# Altium integrated library Microchip DSC 16-Bit dsPIC33F.IntLib: 326 symbols (part 1 of 15)
Pins are listed as number, name and electrical type; pins without a type are passive.

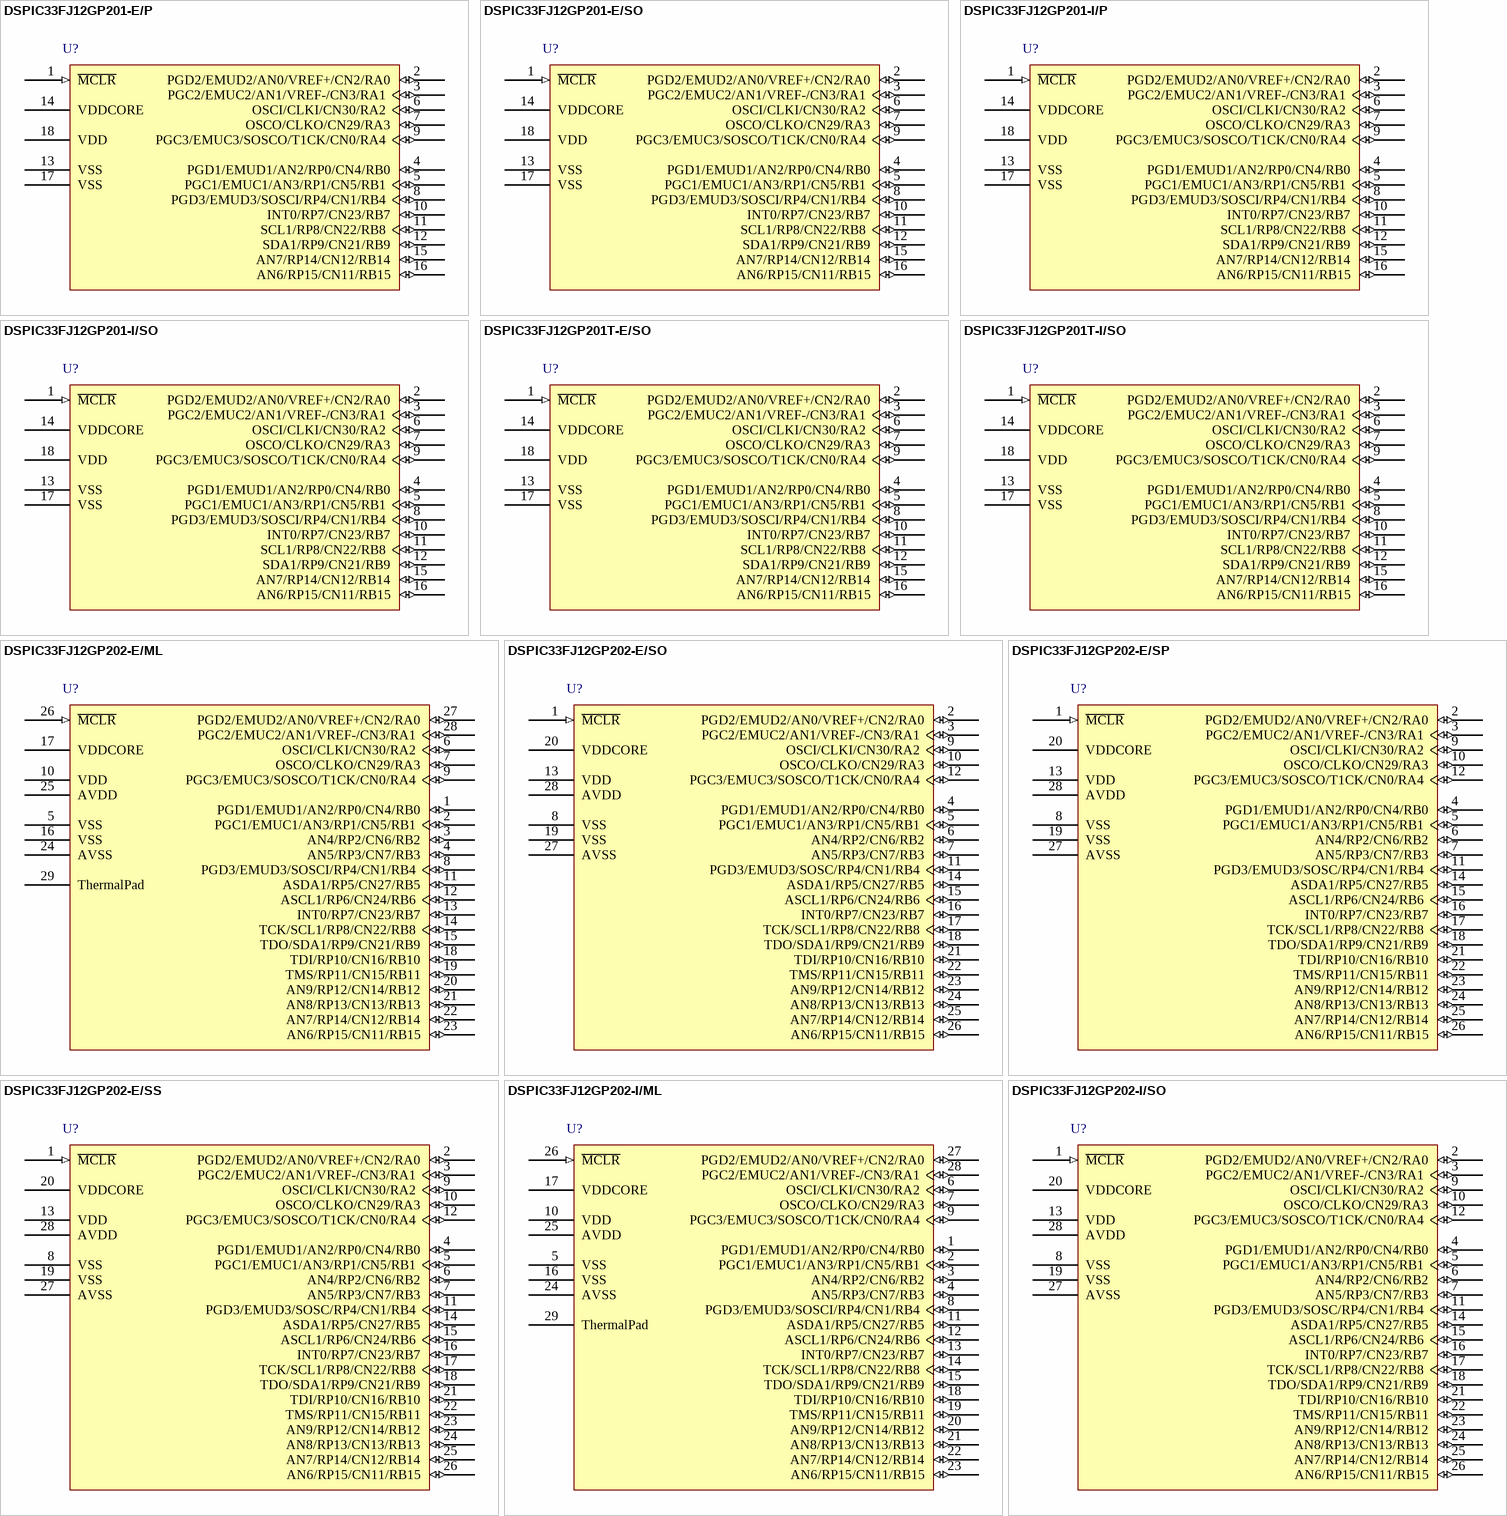
[diagram p0: symbols DSPIC33FJ12GP201-E/P to DSPIC33FJ12GP202-I/SO]

## DSPIC33FJ12GP201-E/P
designator U?
High-Performance 16-bit Digital Signal Controller, 12 KB Flash, 1 KB RAM, 18-Pin PDIP, Extended High Temperature; Published: 29-Jan-2009; DatasheetVersion: revC, Jun-2008; PackageVersion: revAW, Oct-2008; PackageReference: PDIP300-P18; Publisher: Altium Limited; PackageDescription: 18-Lead Plastic Dual In-Line (P) - 300 mil Body [PDIP]; Code_JEDEC: MS-001; ComponentLink1Description: Manufacturer Link; ComponentLink1URL: http://www.microchip.com; ComponentLink2Description: Datasheet; ComponentLink2URL: http://ww1.microchip.com/downloads/en/DeviceDoc/70264C.pdf; ComponentLink3Description: Packaging Specification; ComponentLink3URL: http://ww1.microchip.com/downloads/en/PackagingSpec/00049AW.pdf
footprint PDIP300-P18 (DIP, 18-Leads, Row Spacing 7.62mm, Pitch 2.54mm, Body 22.9x6.6mm)
pins: 1 ~{MCLR} (in), 2 PGD2/EMUD2/AN0/VREF+/CN2/RA0 (io), 3 PGC2/EMUC2/AN1/VREF-/CN3/RA1 (io), 4 PGD1/EMUD1/AN2/RP0/CN4/RB0 (io), 5 PGC1/EMUC1/AN3/RP1/CN5/RB1 (io), 6 OSCI/CLKI/CN30/RA2 (io), 7 OSCO/CLKO/CN29/RA3 (io), 8 PGD3/EMUD3/SOSCI/RP4/CN1/RB4 (io), 9 PGC3/EMUC3/SOSCO/T1CK/CN0/RA4 (io), 10 INT0/RP7/CN23/RB7 (io), 11 SCL1/RP8/CN22/RB8 (io), 12 SDA1/RP9/CN21/RB9 (io), 13 VSS (power), 14 VDDCORE (power), 15 AN7/RP14/CN12/RB14 (io), 16 AN6/RP15/CN11/RB15 (io), 17 VSS (power), 18 VDD (power)

## DSPIC33FJ12GP201-E/SO
designator U?
High-Performance 16-bit Digital Signal Controller, 12 KB Flash, 1 KB RAM, 18-Pin SOIC, Extended High Temperature; Published: 29-Jan-2009; DatasheetVersion: revC, Jun-2008; PackageVersion: revAW, Oct-2008; PackageReference: SOIC-SO18; Publisher: Altium Limited; PackageDescription: 18-Lead Plastic Small Outline (SO) - Wide 7.50mm Body [SOIC]; Code_JEDEC: MS-013; ComponentLink1Description: Manufacturer Link; ComponentLink1URL: http://www.microchip.com; ComponentLink2Description: Datasheet; ComponentLink2URL: http://ww1.microchip.com/downloads/en/DeviceDoc/70264C.pdf; ComponentLink3Description: Packaging Specification; ComponentLink3URL: http://ww1.microchip.com/downloads/en/PackagingSpec/00049AW.pdf
footprint SOIC-SO18_N (SOIC, 18-Leads, Body 11.5x7.5mm, Pitch 1.27mm, IPC Medium Density)
footprint SOIC-SO18_L (SOIC, 18-Leads, Body 11.5x7.5mm, Pitch 1.27mm, IPC High Density)
footprint SOIC-SO18_M (SOIC, 18-Leads, Body 11.5x7.5mm, Pitch 1.27mm, IPC Low Density)
pins: 1 ~{MCLR} (in), 2 PGD2/EMUD2/AN0/VREF+/CN2/RA0 (io), 3 PGC2/EMUC2/AN1/VREF-/CN3/RA1 (io), 4 PGD1/EMUD1/AN2/RP0/CN4/RB0 (io), 5 PGC1/EMUC1/AN3/RP1/CN5/RB1 (io), 6 OSCI/CLKI/CN30/RA2 (io), 7 OSCO/CLKO/CN29/RA3 (io), 8 PGD3/EMUD3/SOSCI/RP4/CN1/RB4 (io), 9 PGC3/EMUC3/SOSCO/T1CK/CN0/RA4 (io), 10 INT0/RP7/CN23/RB7 (io), 11 SCL1/RP8/CN22/RB8 (io), 12 SDA1/RP9/CN21/RB9 (io), 13 VSS (power), 14 VDDCORE (power), 15 AN7/RP14/CN12/RB14 (io), 16 AN6/RP15/CN11/RB15 (io), 17 VSS (power), 18 VDD (power)

## DSPIC33FJ12GP201-I/P
designator U?
High-Performance 16-bit Digital Signal Controller, 12 KB Flash, 1 KB RAM, 18-Pin PDIP, Industrial Temperature; Published: 29-Jan-2009; DatasheetVersion: revC, Jun-2008; PackageVersion: revAW, Oct-2008; PackageReference: PDIP300-P18; Publisher: Altium Limited; PackageDescription: 18-Lead Plastic Dual In-Line (P) - 300 mil Body [PDIP]; Code_JEDEC: MS-001; ComponentLink1Description: Manufacturer Link; ComponentLink1URL: http://www.microchip.com; ComponentLink2Description: Datasheet; ComponentLink2URL: http://ww1.microchip.com/downloads/en/DeviceDoc/70264C.pdf; ComponentLink3Description: Packaging Specification; ComponentLink3URL: http://ww1.microchip.com/downloads/en/PackagingSpec/00049AW.pdf
footprint PDIP300-P18 (DIP, 18-Leads, Row Spacing 7.62mm, Pitch 2.54mm, Body 22.9x6.6mm)
pins: 1 ~{MCLR} (in), 2 PGD2/EMUD2/AN0/VREF+/CN2/RA0 (io), 3 PGC2/EMUC2/AN1/VREF-/CN3/RA1 (io), 4 PGD1/EMUD1/AN2/RP0/CN4/RB0 (io), 5 PGC1/EMUC1/AN3/RP1/CN5/RB1 (io), 6 OSCI/CLKI/CN30/RA2 (io), 7 OSCO/CLKO/CN29/RA3 (io), 8 PGD3/EMUD3/SOSCI/RP4/CN1/RB4 (io), 9 PGC3/EMUC3/SOSCO/T1CK/CN0/RA4 (io), 10 INT0/RP7/CN23/RB7 (io), 11 SCL1/RP8/CN22/RB8 (io), 12 SDA1/RP9/CN21/RB9 (io), 13 VSS (power), 14 VDDCORE (power), 15 AN7/RP14/CN12/RB14 (io), 16 AN6/RP15/CN11/RB15 (io), 17 VSS (power), 18 VDD (power)

## DSPIC33FJ12GP201-I/SO
designator U?
High-Performance 16-bit Digital Signal Controller, 12 KB Flash, 1 KB RAM, 18-Pin SOIC, Industrial Temperature; Published: 29-Jan-2009; DatasheetVersion: revC, Jun-2008; PackageVersion: revAW, Oct-2008; PackageReference: SOIC-SO18; Publisher: Altium Limited; PackageDescription: 18-Lead Plastic Small Outline (SO) - Wide 7.50mm Body [SOIC]; Code_JEDEC: MS-013; ComponentLink1Description: Manufacturer Link; ComponentLink1URL: http://www.microchip.com; ComponentLink2Description: Datasheet; ComponentLink2URL: http://ww1.microchip.com/downloads/en/DeviceDoc/70264C.pdf; ComponentLink3Description: Packaging Specification; ComponentLink3URL: http://ww1.microchip.com/downloads/en/PackagingSpec/00049AW.pdf
footprint SOIC-SO18_N (SOIC, 18-Leads, Body 11.5x7.5mm, Pitch 1.27mm, IPC Medium Density)
footprint SOIC-SO18_L (SOIC, 18-Leads, Body 11.5x7.5mm, Pitch 1.27mm, IPC High Density)
footprint SOIC-SO18_M (SOIC, 18-Leads, Body 11.5x7.5mm, Pitch 1.27mm, IPC Low Density)
pins: 1 ~{MCLR} (in), 2 PGD2/EMUD2/AN0/VREF+/CN2/RA0 (io), 3 PGC2/EMUC2/AN1/VREF-/CN3/RA1 (io), 4 PGD1/EMUD1/AN2/RP0/CN4/RB0 (io), 5 PGC1/EMUC1/AN3/RP1/CN5/RB1 (io), 6 OSCI/CLKI/CN30/RA2 (io), 7 OSCO/CLKO/CN29/RA3 (io), 8 PGD3/EMUD3/SOSCI/RP4/CN1/RB4 (io), 9 PGC3/EMUC3/SOSCO/T1CK/CN0/RA4 (io), 10 INT0/RP7/CN23/RB7 (io), 11 SCL1/RP8/CN22/RB8 (io), 12 SDA1/RP9/CN21/RB9 (io), 13 VSS (power), 14 VDDCORE (power), 15 AN7/RP14/CN12/RB14 (io), 16 AN6/RP15/CN11/RB15 (io), 17 VSS (power), 18 VDD (power)

## DSPIC33FJ12GP201T-E/SO
designator U?
High-Performance 16-bit Digital Signal Controller, 12 KB Flash, 1 KB RAM, 18-Pin SOIC, Extended High Temperature, Tape and Reel; Published: 29-Jan-2009; DatasheetVersion: revC, Jun-2008; PackageVersion: revAW, Oct-2008; PackageReference: SOIC-SO18; Publisher: Altium Limited; PackageDescription: 18-Lead Plastic Small Outline (SO) - Wide 7.50mm Body [SOIC]; Code_JEDEC: MS-013; ComponentLink1Description: Manufacturer Link; ComponentLink1URL: http://www.microchip.com; ComponentLink2Description: Datasheet; ComponentLink2URL: http://ww1.microchip.com/downloads/en/DeviceDoc/70264C.pdf; ComponentLink3Description: Packaging Specification; ComponentLink3URL: http://ww1.microchip.com/downloads/en/PackagingSpec/00049AW.pdf
footprint SOIC-SO18_N (SOIC, 18-Leads, Body 11.5x7.5mm, Pitch 1.27mm, IPC Medium Density)
footprint SOIC-SO18_L (SOIC, 18-Leads, Body 11.5x7.5mm, Pitch 1.27mm, IPC High Density)
footprint SOIC-SO18_M (SOIC, 18-Leads, Body 11.5x7.5mm, Pitch 1.27mm, IPC Low Density)
pins: 1 ~{MCLR} (in), 2 PGD2/EMUD2/AN0/VREF+/CN2/RA0 (io), 3 PGC2/EMUC2/AN1/VREF-/CN3/RA1 (io), 4 PGD1/EMUD1/AN2/RP0/CN4/RB0 (io), 5 PGC1/EMUC1/AN3/RP1/CN5/RB1 (io), 6 OSCI/CLKI/CN30/RA2 (io), 7 OSCO/CLKO/CN29/RA3 (io), 8 PGD3/EMUD3/SOSCI/RP4/CN1/RB4 (io), 9 PGC3/EMUC3/SOSCO/T1CK/CN0/RA4 (io), 10 INT0/RP7/CN23/RB7 (io), 11 SCL1/RP8/CN22/RB8 (io), 12 SDA1/RP9/CN21/RB9 (io), 13 VSS (power), 14 VDDCORE (power), 15 AN7/RP14/CN12/RB14 (io), 16 AN6/RP15/CN11/RB15 (io), 17 VSS (power), 18 VDD (power)

## DSPIC33FJ12GP201T-I/SO
designator U?
High-Performance 16-bit Digital Signal Controller, 12 KB Flash, 1 KB RAM, 18-Pin SOIC, Industrial Temperature, Tape and Reel; Published: 29-Jan-2009; DatasheetVersion: revC, Jun-2008; PackageVersion: revAW, Oct-2008; PackageReference: SOIC-SO18; Publisher: Altium Limited; PackageDescription: 18-Lead Plastic Small Outline (SO) - Wide 7.50mm Body [SOIC]; Code_JEDEC: MS-013; ComponentLink1Description: Manufacturer Link; ComponentLink1URL: http://www.microchip.com; ComponentLink2Description: Datasheet; ComponentLink2URL: http://ww1.microchip.com/downloads/en/DeviceDoc/70264C.pdf; ComponentLink3Description: Packaging Specification; ComponentLink3URL: http://ww1.microchip.com/downloads/en/PackagingSpec/00049AW.pdf
footprint SOIC-SO18_N (SOIC, 18-Leads, Body 11.5x7.5mm, Pitch 1.27mm, IPC Medium Density)
footprint SOIC-SO18_L (SOIC, 18-Leads, Body 11.5x7.5mm, Pitch 1.27mm, IPC High Density)
footprint SOIC-SO18_M (SOIC, 18-Leads, Body 11.5x7.5mm, Pitch 1.27mm, IPC Low Density)
pins: 1 ~{MCLR} (in), 2 PGD2/EMUD2/AN0/VREF+/CN2/RA0 (io), 3 PGC2/EMUC2/AN1/VREF-/CN3/RA1 (io), 4 PGD1/EMUD1/AN2/RP0/CN4/RB0 (io), 5 PGC1/EMUC1/AN3/RP1/CN5/RB1 (io), 6 OSCI/CLKI/CN30/RA2 (io), 7 OSCO/CLKO/CN29/RA3 (io), 8 PGD3/EMUD3/SOSCI/RP4/CN1/RB4 (io), 9 PGC3/EMUC3/SOSCO/T1CK/CN0/RA4 (io), 10 INT0/RP7/CN23/RB7 (io), 11 SCL1/RP8/CN22/RB8 (io), 12 SDA1/RP9/CN21/RB9 (io), 13 VSS (power), 14 VDDCORE (power), 15 AN7/RP14/CN12/RB14 (io), 16 AN6/RP15/CN11/RB15 (io), 17 VSS (power), 18 VDD (power)

## DSPIC33FJ12GP202-E/ML
designator U?
High-Performance 16-bit Digital Signal Controller, 12 KB Flash, 1 KB RAM, 28-Pin QFN, Extended High Temperature; Published: 29-Jan-2009; DatasheetVersion: revC, Jun-2008; PackageVersion: revAW, Oct-2008; PackageReference: QFN-ML28; Publisher: Altium Limited; PackageDescription: 28-Lead Plastic Quad Flat, No Lead Package (ML) - 6x6 mm Body [QFN] with 0.55 mm Contact Length; Code_JEDEC: MO-220; Code_IPC: QFN65P600X600-28V; ComponentLink1Description: Manufacturer Link; ComponentLink1URL: http://www.microchip.com; ComponentLink2Description: Datasheet; ComponentLink2URL: http://ww1.microchip.com/downloads/en/DeviceDoc/70264C.pdf; ComponentLink3Description: Packaging Specification; ComponentLink3URL: http://ww1.microchip.com/downloads/en/PackagingSpec/00049AW.pdf
footprint QFN-ML28_N (QFN, 28-Leads, Body 6x6 mm, Pitch 0.65mm, IPC Medium Density)
footprint QFN-ML28_L (QFN, 28-Leads, Body 6x6 mm, Pitch 0.65mm, IPC High Density)
footprint QFN-ML28_M (QFN, 28-Leads, Body 6x6 mm, Pitch 0.65mm, IPC Low Density)
pins: 1 PGD1/EMUD1/AN2/RP0/CN4/RB0 (io), 2 PGC1/EMUC1/AN3/RP1/CN5/RB1 (io), 3 AN4/RP2/CN6/RB2 (io), 4 AN5/RP3/CN7/RB3 (io), 5 VSS (power), 6 OSCI/CLKI/CN30/RA2 (io), 7 OSCO/CLKO/CN29/RA3 (io), 8 PGD3/EMUD3/SOSCI/RP4/CN1/RB4 (io), 9 PGC3/EMUC3/SOSCO/T1CK/CN0/RA4 (io), 10 VDD (power), 11 ASDA1/RP5/CN27/RB5 (io), 12 ASCL1/RP6/CN24/RB6 (io), 13 INT0/RP7/CN23/RB7 (io), 14 TCK/SCL1/RP8/CN22/RB8 (io), 15 TDO/SDA1/RP9/CN21/RB9 (io), 16 VSS (power), 17 VDDCORE (power), 18 TDI/RP10/CN16/RB10 (io), 19 TMS/RP11/CN15/RB11 (io), 20 AN9/RP12/CN14/RB12 (io), 21 AN8/RP13/CN13/RB13 (io), 22 AN7/RP14/CN12/RB14 (io), 23 AN6/RP15/CN11/RB15 (io), 24 AVSS (power), 25 AVDD (power), 26 ~{MCLR} (in), 27 PGD2/EMUD2/AN0/VREF+/CN2/RA0 (io), 28 PGC2/EMUC2/AN1/VREF-/CN3/RA1 (io), 29 ThermalPad

## DSPIC33FJ12GP202-E/SO
designator U?
High-Performance 16-bit Digital Signal Controller, 12 KB Flash, 1 KB RAM, 28-Pin SOIC, Extended High Temperature; Published: 29-Jan-2009; DatasheetVersion: revC, Jun-2008; PackageVersion: revAW, Oct-2008; PackageReference: SOIC-SO28; Publisher: Altium Limited; PackageDescription: 28-Lead Plastic Small Outline (SO) - Wide 7.50mm Body [SOIC]; Code_JEDEC: MS-013; ComponentLink1Description: Manufacturer Link; ComponentLink1URL: http://www.microchip.com; ComponentLink2Description: Datasheet; ComponentLink2URL: http://ww1.microchip.com/downloads/en/DeviceDoc/70264C.pdf; ComponentLink3Description: Packaging Specification; ComponentLink3URL: http://ww1.microchip.com/downloads/en/PackagingSpec/00049AW.pdf
footprint SOIC-SO28_N (SOIC, 28-Leads, Body 17.9x7.5mm, Pitch 1.27mm, IPC Medium Density)
footprint SOIC-SO28_L (SOIC, 28-Leads, Body 17.9x7.5mm, Pitch 1.27mm, IPC High Density)
footprint SOIC-SO28_M (SOIC, 28-Leads, Body 17.9x7.5mm, Pitch 1.27mm, IPC Low Density)
pins: 1 ~{MCLR} (in), 2 PGD2/EMUD2/AN0/VREF+/CN2/RA0 (io), 3 PGC2/EMUC2/AN1/VREF-/CN3/RA1 (io), 4 PGD1/EMUD1/AN2/RP0/CN4/RB0 (io), 5 PGC1/EMUC1/AN3/RP1/CN5/RB1 (io), 6 AN4/RP2/CN6/RB2 (io), 7 AN5/RP3/CN7/RB3 (io), 8 VSS (power), 9 OSCI/CLKI/CN30/RA2 (io), 10 OSCO/CLKO/CN29/RA3 (io), 11 PGD3/EMUD3/SOSC/RP4/CN1/RB4 (io), 12 PGC3/EMUC3/SOSCO/T1CK/CN0/RA4 (io), 13 VDD (power), 14 ASDA1/RP5/CN27/RB5 (io), 15 ASCL1/RP6/CN24/RB6 (io), 16 INT0/RP7/CN23/RB7 (io), 17 TCK/SCL1/RP8/CN22/RB8 (io), 18 TDO/SDA1/RP9/CN21/RB9 (io), 19 VSS (power), 20 VDDCORE (power), 21 TDI/RP10/CN16/RB10 (io), 22 TMS/RP11/CN15/RB11 (io), 23 AN9/RP12/CN14/RB12 (io), 24 AN8/RP13/CN13/RB13 (io), 25 AN7/RP14/CN12/RB14 (io), 26 AN6/RP15/CN11/RB15 (io), 27 AVSS (power), 28 AVDD (power)

## DSPIC33FJ12GP202-E/SP
designator U?
High-Performance 16-bit Digital Signal Controller, 12 KB Flash, 1 KB RAM, 28-Pin SPDIP, Extended High Temperature; Published: 29-Jan-2009; DatasheetVersion: revC, Jun-2008; PackageVersion: revAW, Oct-2008; PackageReference: SPDIP300-SP28; Publisher: Altium Limited; PackageDescription: 28-Lead Skinny Plastic Dual In-Line (SP) - 300 mil Body [SPDIP]; ComponentLink1Description: Manufacturer Link; ComponentLink1URL: http://www.microchip.com; ComponentLink2Description: Datasheet; ComponentLink2URL: http://ww1.microchip.com/downloads/en/DeviceDoc/70264C.pdf; ComponentLink3Description: Packaging Specification; ComponentLink3URL: http://ww1.microchip.com/downloads/en/PackagingSpec/00049AW.pdf
footprint SPDIP300-SP28 (DIP, 28-Leads, Row Spacing 7.62mm, Pitch 2.54mm, Body 34.9x6.8mm)
pins: 1 ~{MCLR} (in), 2 PGD2/EMUD2/AN0/VREF+/CN2/RA0 (io), 3 PGC2/EMUC2/AN1/VREF-/CN3/RA1 (io), 4 PGD1/EMUD1/AN2/RP0/CN4/RB0 (io), 5 PGC1/EMUC1/AN3/RP1/CN5/RB1 (io), 6 AN4/RP2/CN6/RB2 (io), 7 AN5/RP3/CN7/RB3 (io), 8 VSS (power), 9 OSCI/CLKI/CN30/RA2 (io), 10 OSCO/CLKO/CN29/RA3 (io), 11 PGD3/EMUD3/SOSC/RP4/CN1/RB4 (io), 12 PGC3/EMUC3/SOSCO/T1CK/CN0/RA4 (io), 13 VDD (power), 14 ASDA1/RP5/CN27/RB5 (io), 15 ASCL1/RP6/CN24/RB6 (io), 16 INT0/RP7/CN23/RB7 (io), 17 TCK/SCL1/RP8/CN22/RB8 (io), 18 TDO/SDA1/RP9/CN21/RB9 (io), 19 VSS (power), 20 VDDCORE (power), 21 TDI/RP10/CN16/RB10 (io), 22 TMS/RP11/CN15/RB11 (io), 23 AN9/RP12/CN14/RB12 (io), 24 AN8/RP13/CN13/RB13 (io), 25 AN7/RP14/CN12/RB14 (io), 26 AN6/RP15/CN11/RB15 (io), 27 AVSS (power), 28 AVDD (power)

## DSPIC33FJ12GP202-E/SS
designator U?
High-Performance 16-bit Digital Signal Controller, 12 KB Flash, 1 KB RAM, 28-Pin SSOP, Extended High Temperature; Published: 29-Jan-2009; DatasheetVersion: revC, Jun-2008; PackageVersion: revAW, Oct-2008; PackageReference: SSOP-SS28; Publisher: Altium Limited; PackageDescription: 28-Lead Plastic Shrink Small Outline (SS) - 5.3mm Body [SSOP]; Code_JEDEC: MS-150; Code_IPC: SOP65P780-28; ComponentLink1Description: Manufacturer Link; ComponentLink1URL: http://www.microchip.com; ComponentLink2Description: Datasheet; ComponentLink2URL: http://ww1.microchip.com/downloads/en/DeviceDoc/70264C.pdf; ComponentLink3Description: Packaging Specification; ComponentLink3URL: http://ww1.microchip.com/downloads/en/PackagingSpec/00049AW.pdf
footprint SSOP-SS28_N (SOP, 28-Leads, Body 10.2x5.2mm, Pitch 0.65mm, IPC Medium Density)
footprint SSOP-SS28_L (SOP, 28-Leads, Body 10.2x5.2mm, Pitch 0.65mm, IPC High Density)
footprint SSOP-SS28_M (SOP, 28-Leads, Body 10.2x5.2mm, Pitch 0.65mm, IPC Low Density)
pins: 1 ~{MCLR} (in), 2 PGD2/EMUD2/AN0/VREF+/CN2/RA0 (io), 3 PGC2/EMUC2/AN1/VREF-/CN3/RA1 (io), 4 PGD1/EMUD1/AN2/RP0/CN4/RB0 (io), 5 PGC1/EMUC1/AN3/RP1/CN5/RB1 (io), 6 AN4/RP2/CN6/RB2 (io), 7 AN5/RP3/CN7/RB3 (io), 8 VSS (power), 9 OSCI/CLKI/CN30/RA2 (io), 10 OSCO/CLKO/CN29/RA3 (io), 11 PGD3/EMUD3/SOSC/RP4/CN1/RB4 (io), 12 PGC3/EMUC3/SOSCO/T1CK/CN0/RA4 (io), 13 VDD (power), 14 ASDA1/RP5/CN27/RB5 (io), 15 ASCL1/RP6/CN24/RB6 (io), 16 INT0/RP7/CN23/RB7 (io), 17 TCK/SCL1/RP8/CN22/RB8 (io), 18 TDO/SDA1/RP9/CN21/RB9 (io), 19 VSS (power), 20 VDDCORE (power), 21 TDI/RP10/CN16/RB10 (io), 22 TMS/RP11/CN15/RB11 (io), 23 AN9/RP12/CN14/RB12 (io), 24 AN8/RP13/CN13/RB13 (io), 25 AN7/RP14/CN12/RB14 (io), 26 AN6/RP15/CN11/RB15 (io), 27 AVSS (power), 28 AVDD (power)

## DSPIC33FJ12GP202-I/ML
designator U?
High-Performance 16-bit Digital Signal Controller, 12 KB Flash, 1 KB RAM, 28-Pin QFN, Industrial Temperature; Published: 29-Jan-2009; DatasheetVersion: revC, Jun-2008; PackageVersion: revAW, Oct-2008; PackageReference: QFN-ML28; Publisher: Altium Limited; PackageDescription: 28-Lead Plastic Quad Flat, No Lead Package (ML) - 6x6 mm Body [QFN] with 0.55 mm Contact Length; Code_JEDEC: MO-220; Code_IPC: QFN65P600X600-28V; ComponentLink1Description: Manufacturer Link; ComponentLink1URL: http://www.microchip.com; ComponentLink2Description: Datasheet; ComponentLink2URL: http://ww1.microchip.com/downloads/en/DeviceDoc/70264C.pdf; ComponentLink3Description: Packaging Specification; ComponentLink3URL: http://ww1.microchip.com/downloads/en/PackagingSpec/00049AW.pdf
footprint QFN-ML28_N (QFN, 28-Leads, Body 6x6 mm, Pitch 0.65mm, IPC Medium Density)
footprint QFN-ML28_L (QFN, 28-Leads, Body 6x6 mm, Pitch 0.65mm, IPC High Density)
footprint QFN-ML28_M (QFN, 28-Leads, Body 6x6 mm, Pitch 0.65mm, IPC Low Density)
pins: 1 PGD1/EMUD1/AN2/RP0/CN4/RB0 (io), 2 PGC1/EMUC1/AN3/RP1/CN5/RB1 (io), 3 AN4/RP2/CN6/RB2 (io), 4 AN5/RP3/CN7/RB3 (io), 5 VSS (power), 6 OSCI/CLKI/CN30/RA2 (io), 7 OSCO/CLKO/CN29/RA3 (io), 8 PGD3/EMUD3/SOSCI/RP4/CN1/RB4 (io), 9 PGC3/EMUC3/SOSCO/T1CK/CN0/RA4 (io), 10 VDD (power), 11 ASDA1/RP5/CN27/RB5 (io), 12 ASCL1/RP6/CN24/RB6 (io), 13 INT0/RP7/CN23/RB7 (io), 14 TCK/SCL1/RP8/CN22/RB8 (io), 15 TDO/SDA1/RP9/CN21/RB9 (io), 16 VSS (power), 17 VDDCORE (power), 18 TDI/RP10/CN16/RB10 (io), 19 TMS/RP11/CN15/RB11 (io), 20 AN9/RP12/CN14/RB12 (io), 21 AN8/RP13/CN13/RB13 (io), 22 AN7/RP14/CN12/RB14 (io), 23 AN6/RP15/CN11/RB15 (io), 24 AVSS (power), 25 AVDD (power), 26 ~{MCLR} (in), 27 PGD2/EMUD2/AN0/VREF+/CN2/RA0 (io), 28 PGC2/EMUC2/AN1/VREF-/CN3/RA1 (io), 29 ThermalPad

## DSPIC33FJ12GP202-I/SO
designator U?
High-Performance 16-bit Digital Signal Controller, 12 KB Flash, 1 KB RAM, 28-Pin SOIC, Industrial Temperature; Published: 29-Jan-2009; DatasheetVersion: revC, Jun-2008; PackageVersion: revAW, Oct-2008; PackageReference: SOIC-SO28; Publisher: Altium Limited; PackageDescription: 28-Lead Plastic Small Outline (SO) - Wide 7.50mm Body [SOIC]; Code_JEDEC: MS-013; ComponentLink1Description: Manufacturer Link; ComponentLink1URL: http://www.microchip.com; ComponentLink2Description: Datasheet; ComponentLink2URL: http://ww1.microchip.com/downloads/en/DeviceDoc/70264C.pdf; ComponentLink3Description: Packaging Specification; ComponentLink3URL: http://ww1.microchip.com/downloads/en/PackagingSpec/00049AW.pdf
footprint SOIC-SO28_N (SOIC, 28-Leads, Body 17.9x7.5mm, Pitch 1.27mm, IPC Medium Density)
footprint SOIC-SO28_L (SOIC, 28-Leads, Body 17.9x7.5mm, Pitch 1.27mm, IPC High Density)
footprint SOIC-SO28_M (SOIC, 28-Leads, Body 17.9x7.5mm, Pitch 1.27mm, IPC Low Density)
pins: 1 ~{MCLR} (in), 2 PGD2/EMUD2/AN0/VREF+/CN2/RA0 (io), 3 PGC2/EMUC2/AN1/VREF-/CN3/RA1 (io), 4 PGD1/EMUD1/AN2/RP0/CN4/RB0 (io), 5 PGC1/EMUC1/AN3/RP1/CN5/RB1 (io), 6 AN4/RP2/CN6/RB2 (io), 7 AN5/RP3/CN7/RB3 (io), 8 VSS (power), 9 OSCI/CLKI/CN30/RA2 (io), 10 OSCO/CLKO/CN29/RA3 (io), 11 PGD3/EMUD3/SOSC/RP4/CN1/RB4 (io), 12 PGC3/EMUC3/SOSCO/T1CK/CN0/RA4 (io), 13 VDD (power), 14 ASDA1/RP5/CN27/RB5 (io), 15 ASCL1/RP6/CN24/RB6 (io), 16 INT0/RP7/CN23/RB7 (io), 17 TCK/SCL1/RP8/CN22/RB8 (io), 18 TDO/SDA1/RP9/CN21/RB9 (io), 19 VSS (power), 20 VDDCORE (power), 21 TDI/RP10/CN16/RB10 (io), 22 TMS/RP11/CN15/RB11 (io), 23 AN9/RP12/CN14/RB12 (io), 24 AN8/RP13/CN13/RB13 (io), 25 AN7/RP14/CN12/RB14 (io), 26 AN6/RP15/CN11/RB15 (io), 27 AVSS (power), 28 AVDD (power)

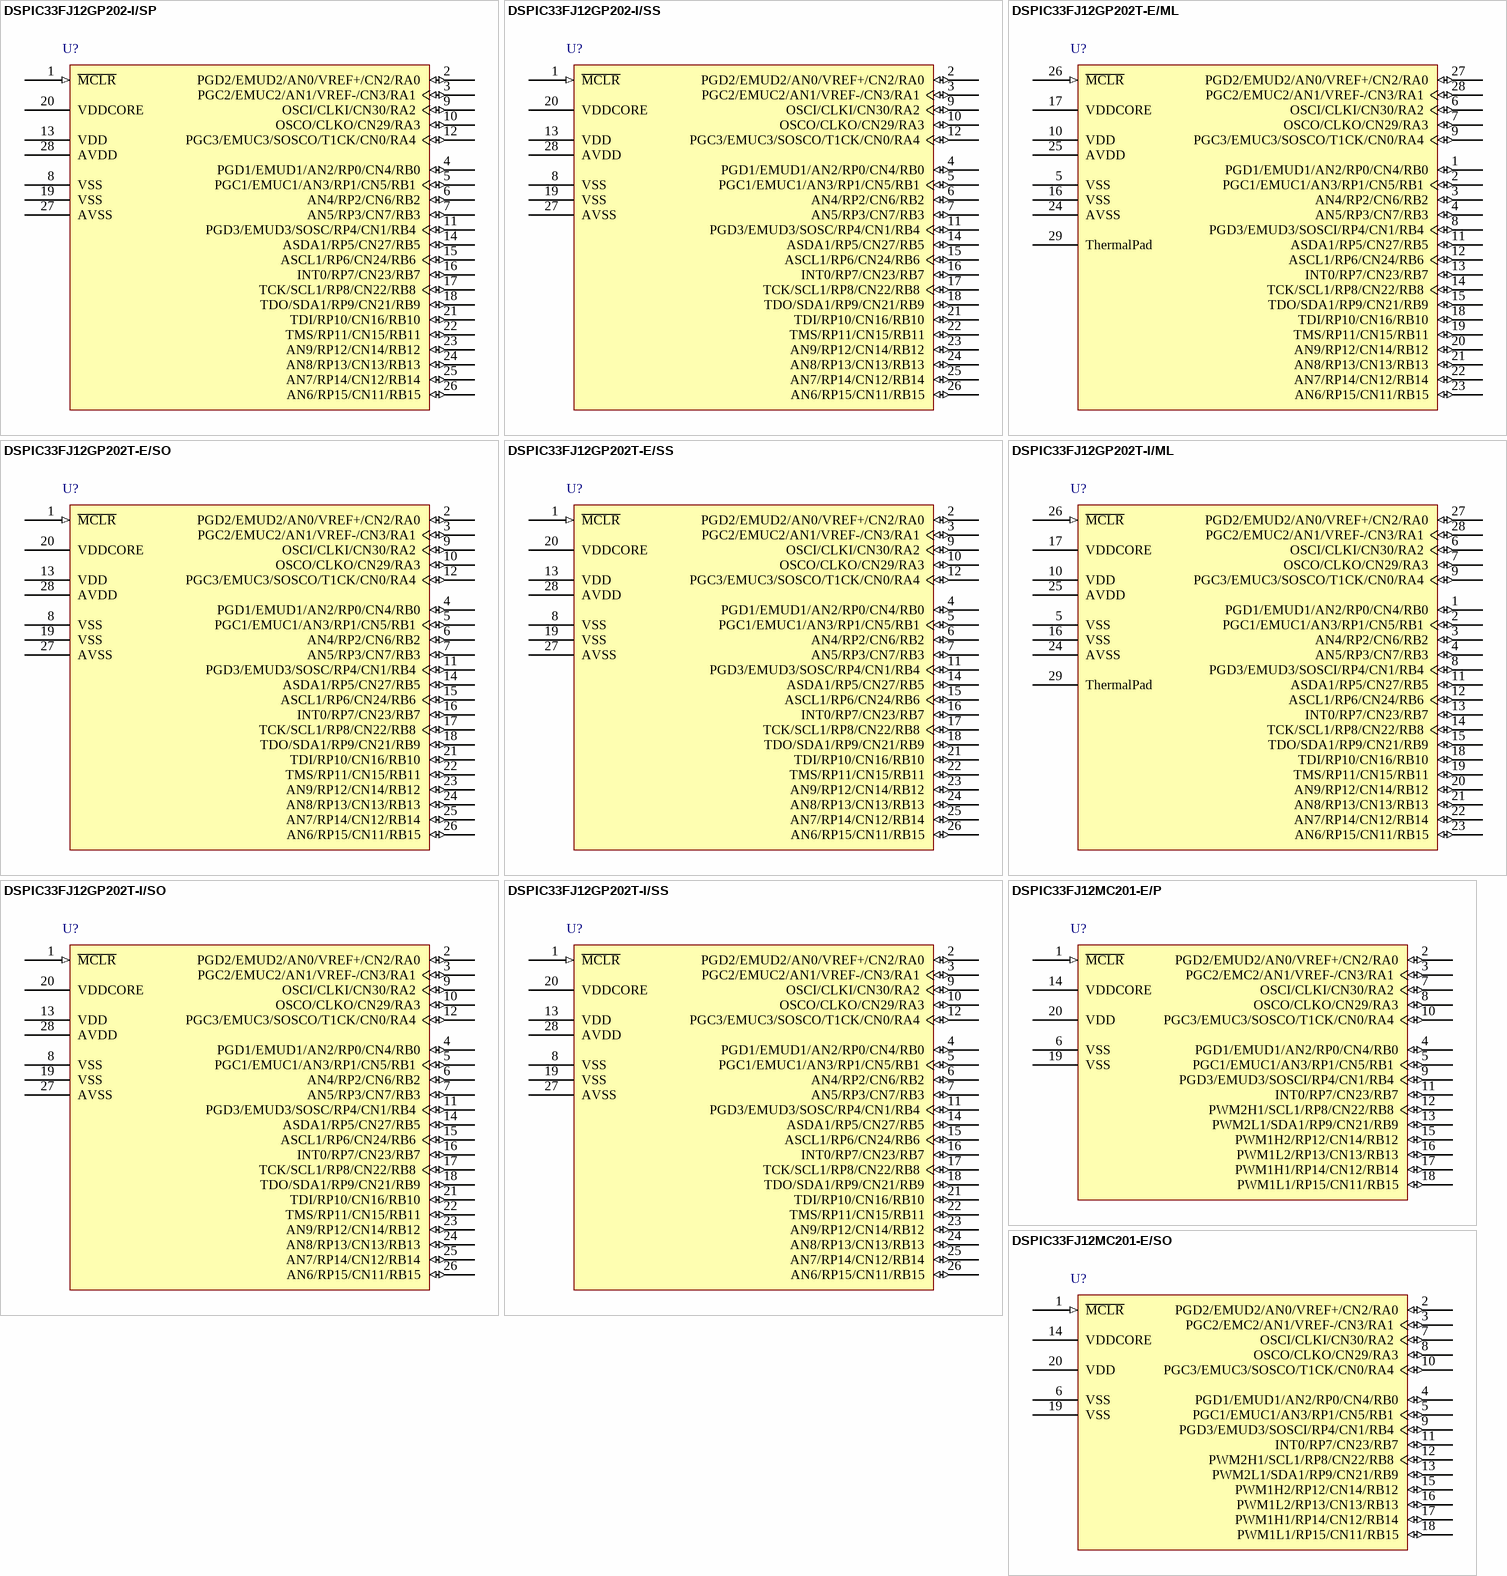
[diagram p1: symbols DSPIC33FJ12GP202-I/SP to DSPIC33FJ12MC201-E/SO]

## DSPIC33FJ12GP202-I/SP
designator U?
High-Performance 16-bit Digital Signal Controller, 12 KB Flash, 1 KB RAM, 28-Pin SPDIP, Industrial Temperature; Published: 29-Jan-2009; DatasheetVersion: revC, Jun-2008; PackageVersion: revAW, Oct-2008; PackageReference: SPDIP300-SP28; Publisher: Altium Limited; PackageDescription: 28-Lead Skinny Plastic Dual In-Line (SP) - 300 mil Body [SPDIP]; ComponentLink1Description: Manufacturer Link; ComponentLink1URL: http://www.microchip.com; ComponentLink2Description: Datasheet; ComponentLink2URL: http://ww1.microchip.com/downloads/en/DeviceDoc/70264C.pdf; ComponentLink3Description: Packaging Specification; ComponentLink3URL: http://ww1.microchip.com/downloads/en/PackagingSpec/00049AW.pdf
footprint SPDIP300-SP28 (DIP, 28-Leads, Row Spacing 7.62mm, Pitch 2.54mm, Body 34.9x6.8mm)
pins: 1 ~{MCLR} (in), 2 PGD2/EMUD2/AN0/VREF+/CN2/RA0 (io), 3 PGC2/EMUC2/AN1/VREF-/CN3/RA1 (io), 4 PGD1/EMUD1/AN2/RP0/CN4/RB0 (io), 5 PGC1/EMUC1/AN3/RP1/CN5/RB1 (io), 6 AN4/RP2/CN6/RB2 (io), 7 AN5/RP3/CN7/RB3 (io), 8 VSS (power), 9 OSCI/CLKI/CN30/RA2 (io), 10 OSCO/CLKO/CN29/RA3 (io), 11 PGD3/EMUD3/SOSC/RP4/CN1/RB4 (io), 12 PGC3/EMUC3/SOSCO/T1CK/CN0/RA4 (io), 13 VDD (power), 14 ASDA1/RP5/CN27/RB5 (io), 15 ASCL1/RP6/CN24/RB6 (io), 16 INT0/RP7/CN23/RB7 (io), 17 TCK/SCL1/RP8/CN22/RB8 (io), 18 TDO/SDA1/RP9/CN21/RB9 (io), 19 VSS (power), 20 VDDCORE (power), 21 TDI/RP10/CN16/RB10 (io), 22 TMS/RP11/CN15/RB11 (io), 23 AN9/RP12/CN14/RB12 (io), 24 AN8/RP13/CN13/RB13 (io), 25 AN7/RP14/CN12/RB14 (io), 26 AN6/RP15/CN11/RB15 (io), 27 AVSS (power), 28 AVDD (power)

## DSPIC33FJ12GP202-I/SS
designator U?
High-Performance 16-bit Digital Signal Controller, 12 KB Flash, 1 KB RAM, 28-Pin SSOP, Industrial Temperature; Published: 29-Jan-2009; DatasheetVersion: revC, Jun-2008; PackageVersion: revAW, Oct-2008; PackageReference: SSOP-SS28; Publisher: Altium Limited; PackageDescription: 28-Lead Plastic Shrink Small Outline (SS) - 5.3mm Body [SSOP]; Code_JEDEC: MS-150; Code_IPC: SOP65P780-28; ComponentLink1Description: Manufacturer Link; ComponentLink1URL: http://www.microchip.com; ComponentLink2Description: Datasheet; ComponentLink2URL: http://ww1.microchip.com/downloads/en/DeviceDoc/70264C.pdf; ComponentLink3Description: Packaging Specification; ComponentLink3URL: http://ww1.microchip.com/downloads/en/PackagingSpec/00049AW.pdf
footprint SSOP-SS28_N (SOP, 28-Leads, Body 10.2x5.2mm, Pitch 0.65mm, IPC Medium Density)
footprint SSOP-SS28_L (SOP, 28-Leads, Body 10.2x5.2mm, Pitch 0.65mm, IPC High Density)
footprint SSOP-SS28_M (SOP, 28-Leads, Body 10.2x5.2mm, Pitch 0.65mm, IPC Low Density)
pins: 1 ~{MCLR} (in), 2 PGD2/EMUD2/AN0/VREF+/CN2/RA0 (io), 3 PGC2/EMUC2/AN1/VREF-/CN3/RA1 (io), 4 PGD1/EMUD1/AN2/RP0/CN4/RB0 (io), 5 PGC1/EMUC1/AN3/RP1/CN5/RB1 (io), 6 AN4/RP2/CN6/RB2 (io), 7 AN5/RP3/CN7/RB3 (io), 8 VSS (power), 9 OSCI/CLKI/CN30/RA2 (io), 10 OSCO/CLKO/CN29/RA3 (io), 11 PGD3/EMUD3/SOSC/RP4/CN1/RB4 (io), 12 PGC3/EMUC3/SOSCO/T1CK/CN0/RA4 (io), 13 VDD (power), 14 ASDA1/RP5/CN27/RB5 (io), 15 ASCL1/RP6/CN24/RB6 (io), 16 INT0/RP7/CN23/RB7 (io), 17 TCK/SCL1/RP8/CN22/RB8 (io), 18 TDO/SDA1/RP9/CN21/RB9 (io), 19 VSS (power), 20 VDDCORE (power), 21 TDI/RP10/CN16/RB10 (io), 22 TMS/RP11/CN15/RB11 (io), 23 AN9/RP12/CN14/RB12 (io), 24 AN8/RP13/CN13/RB13 (io), 25 AN7/RP14/CN12/RB14 (io), 26 AN6/RP15/CN11/RB15 (io), 27 AVSS (power), 28 AVDD (power)

## DSPIC33FJ12GP202T-E/ML
designator U?
High-Performance 16-bit Digital Signal Controller, 12 KB Flash, 1 KB RAM, 28-Pin QFN, Extended High Temperature, Tape and Reel; Published: 29-Jan-2009; DatasheetVersion: revC, Jun-2008; PackageVersion: revAW, Oct-2008; PackageReference: QFN-ML28; Publisher: Altium Limited; PackageDescription: 28-Lead Plastic Quad Flat, No Lead Package (ML) - 6x6 mm Body [QFN] with 0.55 mm Contact Length; Code_JEDEC: MO-220; Code_IPC: QFN65P600X600-28V; ComponentLink1Description: Manufacturer Link; ComponentLink1URL: http://www.microchip.com; ComponentLink2Description: Datasheet; ComponentLink2URL: http://ww1.microchip.com/downloads/en/DeviceDoc/70264C.pdf; ComponentLink3Description: Packaging Specification; ComponentLink3URL: http://ww1.microchip.com/downloads/en/PackagingSpec/00049AW.pdf
footprint QFN-ML28_N (QFN, 28-Leads, Body 6x6 mm, Pitch 0.65mm, IPC Medium Density)
footprint QFN-ML28_L (QFN, 28-Leads, Body 6x6 mm, Pitch 0.65mm, IPC High Density)
footprint QFN-ML28_M (QFN, 28-Leads, Body 6x6 mm, Pitch 0.65mm, IPC Low Density)
pins: 1 PGD1/EMUD1/AN2/RP0/CN4/RB0 (io), 2 PGC1/EMUC1/AN3/RP1/CN5/RB1 (io), 3 AN4/RP2/CN6/RB2 (io), 4 AN5/RP3/CN7/RB3 (io), 5 VSS (power), 6 OSCI/CLKI/CN30/RA2 (io), 7 OSCO/CLKO/CN29/RA3 (io), 8 PGD3/EMUD3/SOSCI/RP4/CN1/RB4 (io), 9 PGC3/EMUC3/SOSCO/T1CK/CN0/RA4 (io), 10 VDD (power), 11 ASDA1/RP5/CN27/RB5 (io), 12 ASCL1/RP6/CN24/RB6 (io), 13 INT0/RP7/CN23/RB7 (io), 14 TCK/SCL1/RP8/CN22/RB8 (io), 15 TDO/SDA1/RP9/CN21/RB9 (io), 16 VSS (power), 17 VDDCORE (power), 18 TDI/RP10/CN16/RB10 (io), 19 TMS/RP11/CN15/RB11 (io), 20 AN9/RP12/CN14/RB12 (io), 21 AN8/RP13/CN13/RB13 (io), 22 AN7/RP14/CN12/RB14 (io), 23 AN6/RP15/CN11/RB15 (io), 24 AVSS (power), 25 AVDD (power), 26 ~{MCLR} (in), 27 PGD2/EMUD2/AN0/VREF+/CN2/RA0 (io), 28 PGC2/EMUC2/AN1/VREF-/CN3/RA1 (io), 29 ThermalPad

## DSPIC33FJ12GP202T-E/SO
designator U?
High-Performance 16-bit Digital Signal Controller, 12 KB Flash, 1 KB RAM, 28-Pin SOIC, Extended High Temperature, Tape and Reel; Published: 29-Jan-2009; DatasheetVersion: revC, Jun-2008; PackageVersion: revAW, Oct-2008; PackageReference: SOIC-SO28; Publisher: Altium Limited; PackageDescription: 28-Lead Plastic Small Outline (SO) - Wide 7.50mm Body [SOIC]; Code_JEDEC: MS-013; ComponentLink1Description: Manufacturer Link; ComponentLink1URL: http://www.microchip.com; ComponentLink2Description: Datasheet; ComponentLink2URL: http://ww1.microchip.com/downloads/en/DeviceDoc/70264C.pdf; ComponentLink3Description: Packaging Specification; ComponentLink3URL: http://ww1.microchip.com/downloads/en/PackagingSpec/00049AW.pdf
footprint SOIC-SO28_N (SOIC, 28-Leads, Body 17.9x7.5mm, Pitch 1.27mm, IPC Medium Density)
footprint SOIC-SO28_L (SOIC, 28-Leads, Body 17.9x7.5mm, Pitch 1.27mm, IPC High Density)
footprint SOIC-SO28_M (SOIC, 28-Leads, Body 17.9x7.5mm, Pitch 1.27mm, IPC Low Density)
pins: 1 ~{MCLR} (in), 2 PGD2/EMUD2/AN0/VREF+/CN2/RA0 (io), 3 PGC2/EMUC2/AN1/VREF-/CN3/RA1 (io), 4 PGD1/EMUD1/AN2/RP0/CN4/RB0 (io), 5 PGC1/EMUC1/AN3/RP1/CN5/RB1 (io), 6 AN4/RP2/CN6/RB2 (io), 7 AN5/RP3/CN7/RB3 (io), 8 VSS (power), 9 OSCI/CLKI/CN30/RA2 (io), 10 OSCO/CLKO/CN29/RA3 (io), 11 PGD3/EMUD3/SOSC/RP4/CN1/RB4 (io), 12 PGC3/EMUC3/SOSCO/T1CK/CN0/RA4 (io), 13 VDD (power), 14 ASDA1/RP5/CN27/RB5 (io), 15 ASCL1/RP6/CN24/RB6 (io), 16 INT0/RP7/CN23/RB7 (io), 17 TCK/SCL1/RP8/CN22/RB8 (io), 18 TDO/SDA1/RP9/CN21/RB9 (io), 19 VSS (power), 20 VDDCORE (power), 21 TDI/RP10/CN16/RB10 (io), 22 TMS/RP11/CN15/RB11 (io), 23 AN9/RP12/CN14/RB12 (io), 24 AN8/RP13/CN13/RB13 (io), 25 AN7/RP14/CN12/RB14 (io), 26 AN6/RP15/CN11/RB15 (io), 27 AVSS (power), 28 AVDD (power)

## DSPIC33FJ12GP202T-E/SS
designator U?
High-Performance 16-bit Digital Signal Controller, 12 KB Flash, 1 KB RAM, 28-Pin SSOP, Extended High Temperature, Tape and Reel; Published: 29-Jan-2009; DatasheetVersion: revC, Jun-2008; PackageVersion: revAW, Oct-2008; PackageReference: SSOP-SS28; Publisher: Altium Limited; PackageDescription: 28-Lead Plastic Shrink Small Outline (SS) - 5.3mm Body [SSOP]; Code_JEDEC: MS-150; Code_IPC: SOP65P780-28; ComponentLink1Description: Manufacturer Link; ComponentLink1URL: http://www.microchip.com; ComponentLink2Description: Datasheet; ComponentLink2URL: http://ww1.microchip.com/downloads/en/DeviceDoc/70264C.pdf; ComponentLink3Description: Packaging Specification; ComponentLink3URL: http://ww1.microchip.com/downloads/en/PackagingSpec/00049AW.pdf
footprint SSOP-SS28_N (SOP, 28-Leads, Body 10.2x5.2mm, Pitch 0.65mm, IPC Medium Density)
footprint SSOP-SS28_L (SOP, 28-Leads, Body 10.2x5.2mm, Pitch 0.65mm, IPC High Density)
footprint SSOP-SS28_M (SOP, 28-Leads, Body 10.2x5.2mm, Pitch 0.65mm, IPC Low Density)
pins: 1 ~{MCLR} (in), 2 PGD2/EMUD2/AN0/VREF+/CN2/RA0 (io), 3 PGC2/EMUC2/AN1/VREF-/CN3/RA1 (io), 4 PGD1/EMUD1/AN2/RP0/CN4/RB0 (io), 5 PGC1/EMUC1/AN3/RP1/CN5/RB1 (io), 6 AN4/RP2/CN6/RB2 (io), 7 AN5/RP3/CN7/RB3 (io), 8 VSS (power), 9 OSCI/CLKI/CN30/RA2 (io), 10 OSCO/CLKO/CN29/RA3 (io), 11 PGD3/EMUD3/SOSC/RP4/CN1/RB4 (io), 12 PGC3/EMUC3/SOSCO/T1CK/CN0/RA4 (io), 13 VDD (power), 14 ASDA1/RP5/CN27/RB5 (io), 15 ASCL1/RP6/CN24/RB6 (io), 16 INT0/RP7/CN23/RB7 (io), 17 TCK/SCL1/RP8/CN22/RB8 (io), 18 TDO/SDA1/RP9/CN21/RB9 (io), 19 VSS (power), 20 VDDCORE (power), 21 TDI/RP10/CN16/RB10 (io), 22 TMS/RP11/CN15/RB11 (io), 23 AN9/RP12/CN14/RB12 (io), 24 AN8/RP13/CN13/RB13 (io), 25 AN7/RP14/CN12/RB14 (io), 26 AN6/RP15/CN11/RB15 (io), 27 AVSS (power), 28 AVDD (power)

## DSPIC33FJ12GP202T-I/ML
designator U?
High-Performance 16-bit Digital Signal Controller, 12 KB Flash, 1 KB RAM, 28-Pin QFN, Industrial Temperature, Tape and Reel; Published: 29-Jan-2009; DatasheetVersion: revC, Jun-2008; PackageVersion: revAW, Oct-2008; PackageReference: QFN-ML28; Publisher: Altium Limited; PackageDescription: 28-Lead Plastic Quad Flat, No Lead Package (ML) - 6x6 mm Body [QFN] with 0.55 mm Contact Length; Code_JEDEC: MO-220; Code_IPC: QFN65P600X600-28V; ComponentLink1Description: Manufacturer Link; ComponentLink1URL: http://www.microchip.com; ComponentLink2Description: Datasheet; ComponentLink2URL: http://ww1.microchip.com/downloads/en/DeviceDoc/70264C.pdf; ComponentLink3Description: Packaging Specification; ComponentLink3URL: http://ww1.microchip.com/downloads/en/PackagingSpec/00049AW.pdf
footprint QFN-ML28_N (QFN, 28-Leads, Body 6x6 mm, Pitch 0.65mm, IPC Medium Density)
footprint QFN-ML28_L (QFN, 28-Leads, Body 6x6 mm, Pitch 0.65mm, IPC High Density)
footprint QFN-ML28_M (QFN, 28-Leads, Body 6x6 mm, Pitch 0.65mm, IPC Low Density)
pins: 1 PGD1/EMUD1/AN2/RP0/CN4/RB0 (io), 2 PGC1/EMUC1/AN3/RP1/CN5/RB1 (io), 3 AN4/RP2/CN6/RB2 (io), 4 AN5/RP3/CN7/RB3 (io), 5 VSS (power), 6 OSCI/CLKI/CN30/RA2 (io), 7 OSCO/CLKO/CN29/RA3 (io), 8 PGD3/EMUD3/SOSCI/RP4/CN1/RB4 (io), 9 PGC3/EMUC3/SOSCO/T1CK/CN0/RA4 (io), 10 VDD (power), 11 ASDA1/RP5/CN27/RB5 (io), 12 ASCL1/RP6/CN24/RB6 (io), 13 INT0/RP7/CN23/RB7 (io), 14 TCK/SCL1/RP8/CN22/RB8 (io), 15 TDO/SDA1/RP9/CN21/RB9 (io), 16 VSS (power), 17 VDDCORE (power), 18 TDI/RP10/CN16/RB10 (io), 19 TMS/RP11/CN15/RB11 (io), 20 AN9/RP12/CN14/RB12 (io), 21 AN8/RP13/CN13/RB13 (io), 22 AN7/RP14/CN12/RB14 (io), 23 AN6/RP15/CN11/RB15 (io), 24 AVSS (power), 25 AVDD (power), 26 ~{MCLR} (in), 27 PGD2/EMUD2/AN0/VREF+/CN2/RA0 (io), 28 PGC2/EMUC2/AN1/VREF-/CN3/RA1 (io), 29 ThermalPad

## DSPIC33FJ12GP202T-I/SO
designator U?
High-Performance 16-bit Digital Signal Controller, 12 KB Flash, 1 KB RAM, 28-Pin SOIC, Industrial Temperature, Tape and Reel; Published: 29-Jan-2009; DatasheetVersion: revC, Jun-2008; PackageVersion: revAW, Oct-2008; PackageReference: SOIC-SO28; Publisher: Altium Limited; PackageDescription: 28-Lead Plastic Small Outline (SO) - Wide 7.50mm Body [SOIC]; Code_JEDEC: MS-013; ComponentLink1Description: Manufacturer Link; ComponentLink1URL: http://www.microchip.com; ComponentLink2Description: Datasheet; ComponentLink2URL: http://ww1.microchip.com/downloads/en/DeviceDoc/70264C.pdf; ComponentLink3Description: Packaging Specification; ComponentLink3URL: http://ww1.microchip.com/downloads/en/PackagingSpec/00049AW.pdf
footprint SOIC-SO28_N (SOIC, 28-Leads, Body 17.9x7.5mm, Pitch 1.27mm, IPC Medium Density)
footprint SOIC-SO28_L (SOIC, 28-Leads, Body 17.9x7.5mm, Pitch 1.27mm, IPC High Density)
footprint SOIC-SO28_M (SOIC, 28-Leads, Body 17.9x7.5mm, Pitch 1.27mm, IPC Low Density)
pins: 1 ~{MCLR} (in), 2 PGD2/EMUD2/AN0/VREF+/CN2/RA0 (io), 3 PGC2/EMUC2/AN1/VREF-/CN3/RA1 (io), 4 PGD1/EMUD1/AN2/RP0/CN4/RB0 (io), 5 PGC1/EMUC1/AN3/RP1/CN5/RB1 (io), 6 AN4/RP2/CN6/RB2 (io), 7 AN5/RP3/CN7/RB3 (io), 8 VSS (power), 9 OSCI/CLKI/CN30/RA2 (io), 10 OSCO/CLKO/CN29/RA3 (io), 11 PGD3/EMUD3/SOSC/RP4/CN1/RB4 (io), 12 PGC3/EMUC3/SOSCO/T1CK/CN0/RA4 (io), 13 VDD (power), 14 ASDA1/RP5/CN27/RB5 (io), 15 ASCL1/RP6/CN24/RB6 (io), 16 INT0/RP7/CN23/RB7 (io), 17 TCK/SCL1/RP8/CN22/RB8 (io), 18 TDO/SDA1/RP9/CN21/RB9 (io), 19 VSS (power), 20 VDDCORE (power), 21 TDI/RP10/CN16/RB10 (io), 22 TMS/RP11/CN15/RB11 (io), 23 AN9/RP12/CN14/RB12 (io), 24 AN8/RP13/CN13/RB13 (io), 25 AN7/RP14/CN12/RB14 (io), 26 AN6/RP15/CN11/RB15 (io), 27 AVSS (power), 28 AVDD (power)

## DSPIC33FJ12GP202T-I/SS
designator U?
High-Performance 16-bit Digital Signal Controller, 12 KB Flash, 1 KB RAM, 28-Pin SSOP, Industrial Temperature, Tape and Reel; Published: 29-Jan-2009; DatasheetVersion: revC, Jun-2008; PackageVersion: revAW, Oct-2008; PackageReference: SSOP-SS28; Publisher: Altium Limited; PackageDescription: 28-Lead Plastic Shrink Small Outline (SS) - 5.3mm Body [SSOP]; Code_JEDEC: MS-150; Code_IPC: SOP65P780-28; ComponentLink1Description: Manufacturer Link; ComponentLink1URL: http://www.microchip.com; ComponentLink2Description: Datasheet; ComponentLink2URL: http://ww1.microchip.com/downloads/en/DeviceDoc/70264C.pdf; ComponentLink3Description: Packaging Specification; ComponentLink3URL: http://ww1.microchip.com/downloads/en/PackagingSpec/00049AW.pdf
footprint SSOP-SS28_N (SOP, 28-Leads, Body 10.2x5.2mm, Pitch 0.65mm, IPC Medium Density)
footprint SSOP-SS28_L (SOP, 28-Leads, Body 10.2x5.2mm, Pitch 0.65mm, IPC High Density)
footprint SSOP-SS28_M (SOP, 28-Leads, Body 10.2x5.2mm, Pitch 0.65mm, IPC Low Density)
pins: 1 ~{MCLR} (in), 2 PGD2/EMUD2/AN0/VREF+/CN2/RA0 (io), 3 PGC2/EMUC2/AN1/VREF-/CN3/RA1 (io), 4 PGD1/EMUD1/AN2/RP0/CN4/RB0 (io), 5 PGC1/EMUC1/AN3/RP1/CN5/RB1 (io), 6 AN4/RP2/CN6/RB2 (io), 7 AN5/RP3/CN7/RB3 (io), 8 VSS (power), 9 OSCI/CLKI/CN30/RA2 (io), 10 OSCO/CLKO/CN29/RA3 (io), 11 PGD3/EMUD3/SOSC/RP4/CN1/RB4 (io), 12 PGC3/EMUC3/SOSCO/T1CK/CN0/RA4 (io), 13 VDD (power), 14 ASDA1/RP5/CN27/RB5 (io), 15 ASCL1/RP6/CN24/RB6 (io), 16 INT0/RP7/CN23/RB7 (io), 17 TCK/SCL1/RP8/CN22/RB8 (io), 18 TDO/SDA1/RP9/CN21/RB9 (io), 19 VSS (power), 20 VDDCORE (power), 21 TDI/RP10/CN16/RB10 (io), 22 TMS/RP11/CN15/RB11 (io), 23 AN9/RP12/CN14/RB12 (io), 24 AN8/RP13/CN13/RB13 (io), 25 AN7/RP14/CN12/RB14 (io), 26 AN6/RP15/CN11/RB15 (io), 27 AVSS (power), 28 AVDD (power)

## DSPIC33FJ12MC201-E/P
designator U?
High-Performance 16-bit Digital Signal Controller, 12 KB Flash, 1 KB RAM, 20-Pin PDIP, Extended High Temperature; Published: 29-Jan-2009; DatasheetVersion: revC, Jun-2008; PackageVersion: revAW, Oct-2008; PackageReference: PDIP300-P20; Publisher: Altium Limited; PackageDescription: 20-Lead Plastic Dual In-Line (P) - 300 mil Body [PDIP]; ComponentLink1Description: Manufacturer Link; ComponentLink1URL: http://www.microchip.com; ComponentLink2Description: Datasheet; ComponentLink2URL: http://ww1.microchip.com/downloads/en/DeviceDoc/70265C.pdf; ComponentLink3Description: Packaging Specification; ComponentLink3URL: http://ww1.microchip.com/downloads/en/PackagingSpec/00049AW.pdf
footprint PDIP300-P20 (DIP, 20-Leads, Row Spacing 7.62mm, Pitch 2.54mm, Body 25.9x6.6mm)
pins: 1 ~{MCLR} (in), 2 PGD2/EMUD2/AN0/VREF+/CN2/RA0 (io), 3 PGC2/EMC2/AN1/VREF-/CN3/RA1 (io), 4 PGD1/EMUD1/AN2/RP0/CN4/RB0 (io), 5 PGC1/EMUC1/AN3/RP1/CN5/RB1 (io), 6 VSS (power), 7 OSCI/CLKI/CN30/RA2 (io), 8 OSCO/CLKO/CN29/RA3 (io), 9 PGD3/EMUD3/SOSCI/RP4/CN1/RB4 (io), 10 PGC3/EMUC3/SOSCO/T1CK/CN0/RA4 (io), 11 INT0/RP7/CN23/RB7 (io), 12 PWM2H1/SCL1/RP8/CN22/RB8 (io), 13 PWM2L1/SDA1/RP9/CN21/RB9 (io), 14 VDDCORE (power), 15 PWM1H2/RP12/CN14/RB12 (io), 16 PWM1L2/RP13/CN13/RB13 (io), 17 PWM1H1/RP14/CN12/RB14 (io), 18 PWM1L1/RP15/CN11/RB15 (io), 19 VSS (power), 20 VDD (power)

## DSPIC33FJ12MC201-E/SO
designator U?
High-Performance 16-bit Digital Signal Controller, 12 KB Flash, 1 KB RAM, 20-Pin SOIC, Extended High Temperature; Published: 29-Jan-2009; DatasheetVersion: revC, Jun-2008; PackageVersion: revAW, Oct-2008; PackageReference: SOIC-SO20; Publisher: Altium Limited; PackageDescription: 20-Lead Plastic Small Outline (SO) - Wide 7.50mm Body [SOIC]; Code_JEDEC: MS-013-AC; Code_IPC: SOIC127P1030-20; ComponentLink1Description: Manufacturer Link; ComponentLink1URL: http://www.microchip.com; ComponentLink2Description: Datasheet; ComponentLink2URL: http://ww1.microchip.com/downloads/en/DeviceDoc/70265C.pdf; ComponentLink3Description: Packaging Specification; ComponentLink3URL: http://ww1.microchip.com/downloads/en/PackagingSpec/00049AW.pdf
footprint SOIC-SO20_N (SOIC, 20-Leads, Body 12.8x7.5mm, Pitch 1.27mm, IPC Medium Density)
footprint SOIC-SO20_L (SOIC, 20-Leads, Body 12.8x7.5mm, Pitch 1.27mm, IPC High Density)
footprint SOIC-SO20_M (SOIC, 20-Leads, Body 12.8x7.5mm, Pitch 1.27mm, IPC Low Density)
pins: 1 ~{MCLR} (in), 2 PGD2/EMUD2/AN0/VREF+/CN2/RA0 (io), 3 PGC2/EMC2/AN1/VREF-/CN3/RA1 (io), 4 PGD1/EMUD1/AN2/RP0/CN4/RB0 (io), 5 PGC1/EMUC1/AN3/RP1/CN5/RB1 (io), 6 VSS (power), 7 OSCI/CLKI/CN30/RA2 (io), 8 OSCO/CLKO/CN29/RA3 (io), 9 PGD3/EMUD3/SOSCI/RP4/CN1/RB4 (io), 10 PGC3/EMUC3/SOSCO/T1CK/CN0/RA4 (io), 11 INT0/RP7/CN23/RB7 (io), 12 PWM2H1/SCL1/RP8/CN22/RB8 (io), 13 PWM2L1/SDA1/RP9/CN21/RB9 (io), 14 VDDCORE (power), 15 PWM1H2/RP12/CN14/RB12 (io), 16 PWM1L2/RP13/CN13/RB13 (io), 17 PWM1H1/RP14/CN12/RB14 (io), 18 PWM1L1/RP15/CN11/RB15 (io), 19 VSS (power), 20 VDD (power)

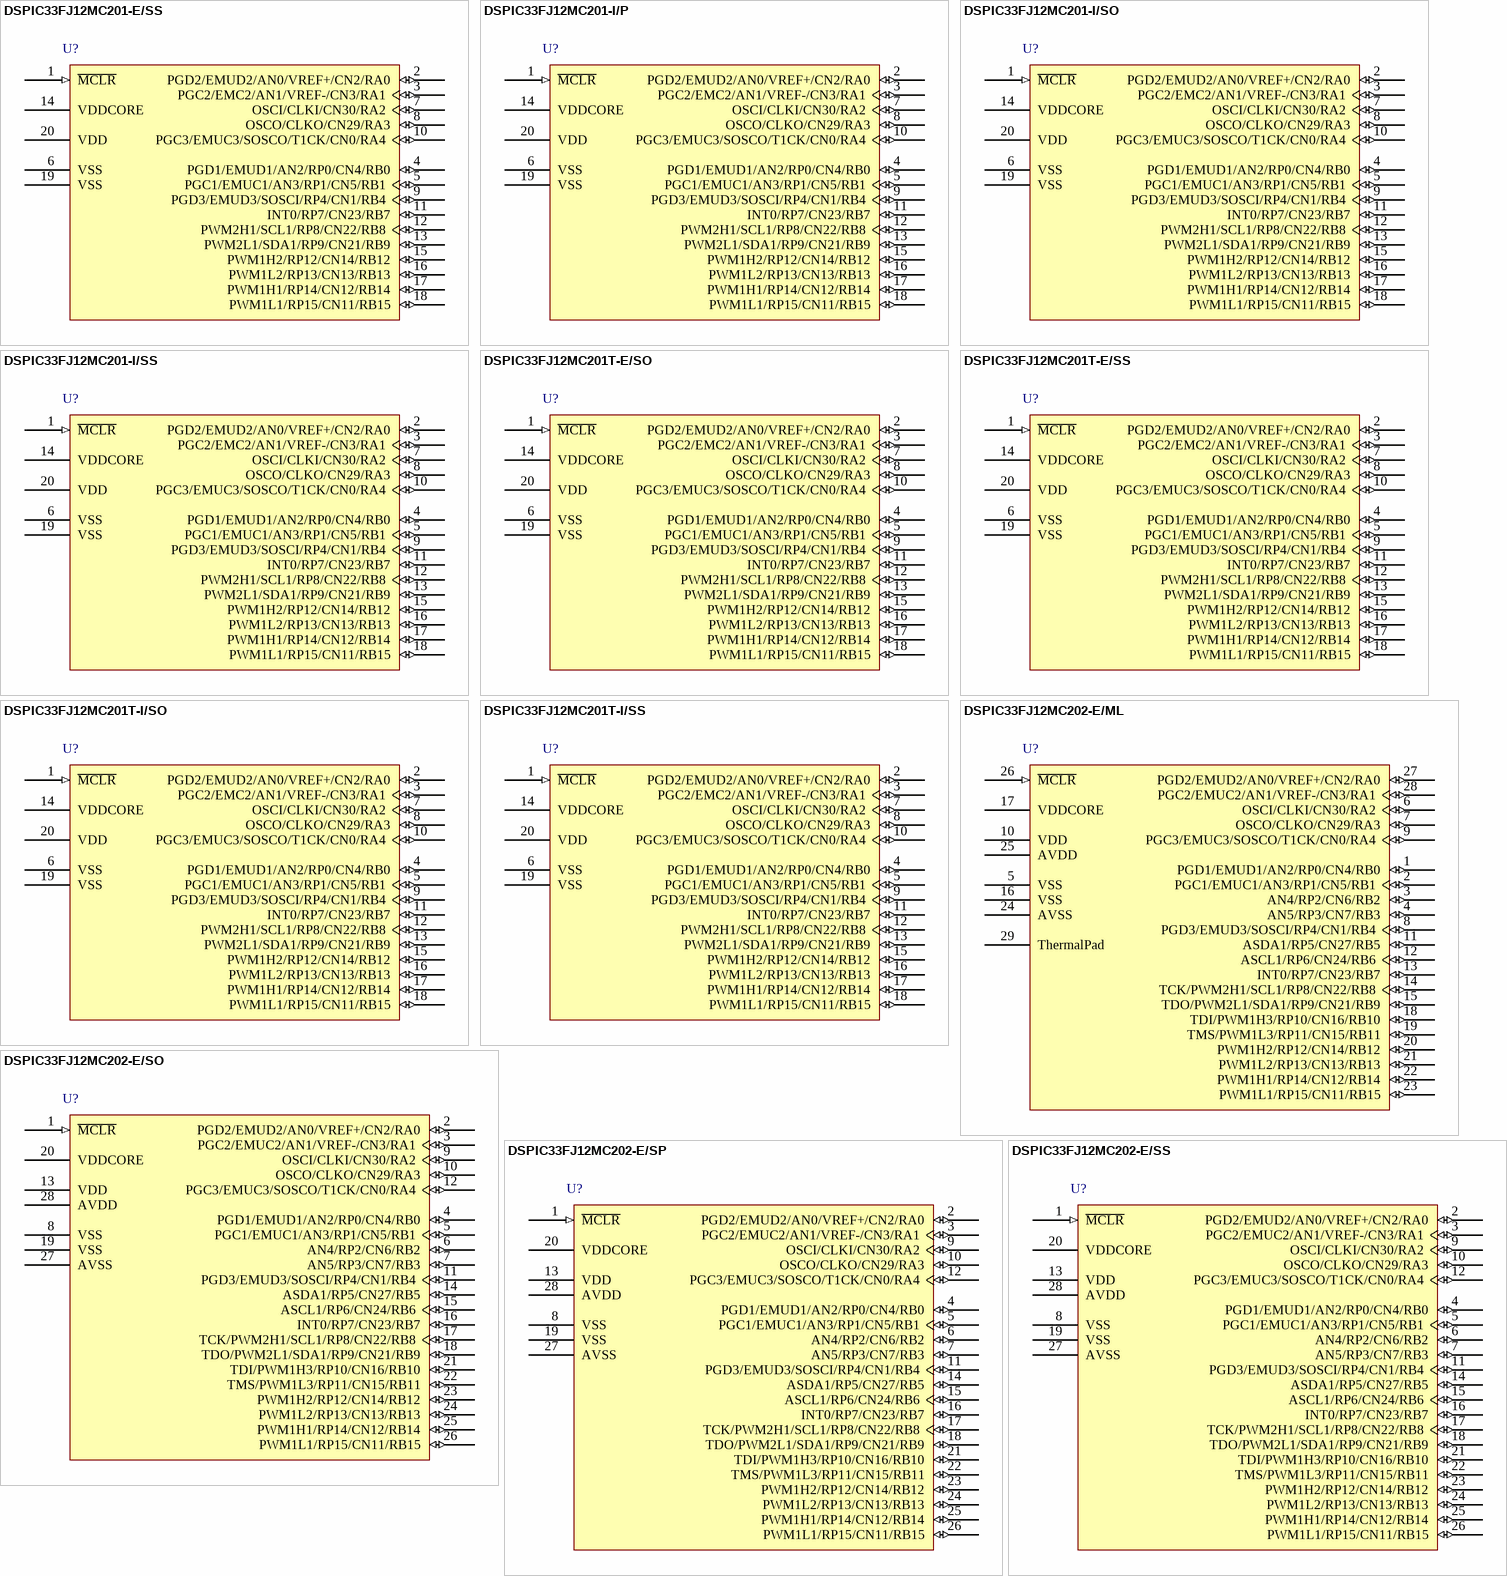
[diagram p2: symbols DSPIC33FJ12MC201-E/SS to DSPIC33FJ12MC202-E/SS]

## DSPIC33FJ12MC201-E/SS
designator U?
High-Performance 16-bit Digital Signal Controller, 12 KB Flash, 1 KB RAM, 20-Pin SSOP, Extended High Temperature; Published: 29-Jan-2009; DatasheetVersion: revC, Jun-2008; PackageVersion: revAW, Oct-2008; PackageReference: SSOP-SS20; Publisher: Altium Limited; PackageDescription: 20-Lead Plastic Shrink Small Outline (SS) - 5.3mm Body [SSOP]; Code_JEDEC: MO-150; Code_IPC: SOP65P780-20; ComponentLink1Description: Manufacturer Link; ComponentLink1URL: http://www.microchip.com; ComponentLink2Description: Datasheet; ComponentLink2URL: http://ww1.microchip.com/downloads/en/DeviceDoc/70265C.pdf; ComponentLink3Description: Packaging Specification; ComponentLink3URL: http://ww1.microchip.com/downloads/en/PackagingSpec/00049AW.pdf
footprint SSOP-SS20_N (SOP, 20-Leads, Body 7.2x5.2mm, Pitch 0.65mm, IPC Medium Density)
footprint SSOP-SS20_L (SOP, 20-Leads, Body 7.2x5.2mm, Pitch 0.65mm, IPC High Density)
footprint SSOP-SS20_M (SOP, 20-Leads, Body 7.2x5.2mm, Pitch 0.65mm, IPC Low Density)
pins: 1 ~{MCLR} (in), 2 PGD2/EMUD2/AN0/VREF+/CN2/RA0 (io), 3 PGC2/EMC2/AN1/VREF-/CN3/RA1 (io), 4 PGD1/EMUD1/AN2/RP0/CN4/RB0 (io), 5 PGC1/EMUC1/AN3/RP1/CN5/RB1 (io), 6 VSS (power), 7 OSCI/CLKI/CN30/RA2 (io), 8 OSCO/CLKO/CN29/RA3 (io), 9 PGD3/EMUD3/SOSCI/RP4/CN1/RB4 (io), 10 PGC3/EMUC3/SOSCO/T1CK/CN0/RA4 (io), 11 INT0/RP7/CN23/RB7 (io), 12 PWM2H1/SCL1/RP8/CN22/RB8 (io), 13 PWM2L1/SDA1/RP9/CN21/RB9 (io), 14 VDDCORE (power), 15 PWM1H2/RP12/CN14/RB12 (io), 16 PWM1L2/RP13/CN13/RB13 (io), 17 PWM1H1/RP14/CN12/RB14 (io), 18 PWM1L1/RP15/CN11/RB15 (io), 19 VSS (power), 20 VDD (power)

## DSPIC33FJ12MC201-I/P
designator U?
High-Performance 16-bit Digital Signal Controller, 12 KB Flash, 1 KB RAM, 20-Pin PDIP, Industrial Temperature; Published: 29-Jan-2009; DatasheetVersion: revC, Jun-2008; PackageVersion: revAW, Oct-2008; PackageReference: PDIP300-P20; Publisher: Altium Limited; PackageDescription: 20-Lead Plastic Dual In-Line (P) - 300 mil Body [PDIP]; ComponentLink1Description: Manufacturer Link; ComponentLink1URL: http://www.microchip.com; ComponentLink2Description: Datasheet; ComponentLink2URL: http://ww1.microchip.com/downloads/en/DeviceDoc/70265C.pdf; ComponentLink3Description: Packaging Specification; ComponentLink3URL: http://ww1.microchip.com/downloads/en/PackagingSpec/00049AW.pdf
footprint PDIP300-P20 (DIP, 20-Leads, Row Spacing 7.62mm, Pitch 2.54mm, Body 25.9x6.6mm)
pins: 1 ~{MCLR} (in), 2 PGD2/EMUD2/AN0/VREF+/CN2/RA0 (io), 3 PGC2/EMC2/AN1/VREF-/CN3/RA1 (io), 4 PGD1/EMUD1/AN2/RP0/CN4/RB0 (io), 5 PGC1/EMUC1/AN3/RP1/CN5/RB1 (io), 6 VSS (power), 7 OSCI/CLKI/CN30/RA2 (io), 8 OSCO/CLKO/CN29/RA3 (io), 9 PGD3/EMUD3/SOSCI/RP4/CN1/RB4 (io), 10 PGC3/EMUC3/SOSCO/T1CK/CN0/RA4 (io), 11 INT0/RP7/CN23/RB7 (io), 12 PWM2H1/SCL1/RP8/CN22/RB8 (io), 13 PWM2L1/SDA1/RP9/CN21/RB9 (io), 14 VDDCORE (power), 15 PWM1H2/RP12/CN14/RB12 (io), 16 PWM1L2/RP13/CN13/RB13 (io), 17 PWM1H1/RP14/CN12/RB14 (io), 18 PWM1L1/RP15/CN11/RB15 (io), 19 VSS (power), 20 VDD (power)

## DSPIC33FJ12MC201-I/SO
designator U?
High-Performance 16-bit Digital Signal Controller, 12 KB Flash, 1 KB RAM, 20-Pin SOIC, Industrial Temperature; Published: 29-Jan-2009; DatasheetVersion: revC, Jun-2008; PackageVersion: revAW, Oct-2008; PackageReference: SOIC-SO20; Publisher: Altium Limited; PackageDescription: 20-Lead Plastic Small Outline (SO) - Wide 7.50mm Body [SOIC]; Code_JEDEC: MS-013-AC; Code_IPC: SOIC127P1030-20; ComponentLink1Description: Manufacturer Link; ComponentLink1URL: http://www.microchip.com; ComponentLink2Description: Datasheet; ComponentLink2URL: http://ww1.microchip.com/downloads/en/DeviceDoc/70265C.pdf; ComponentLink3Description: Packaging Specification; ComponentLink3URL: http://ww1.microchip.com/downloads/en/PackagingSpec/00049AW.pdf
footprint SOIC-SO20_N (SOIC, 20-Leads, Body 12.8x7.5mm, Pitch 1.27mm, IPC Medium Density)
footprint SOIC-SO20_L (SOIC, 20-Leads, Body 12.8x7.5mm, Pitch 1.27mm, IPC High Density)
footprint SOIC-SO20_M (SOIC, 20-Leads, Body 12.8x7.5mm, Pitch 1.27mm, IPC Low Density)
pins: 1 ~{MCLR} (in), 2 PGD2/EMUD2/AN0/VREF+/CN2/RA0 (io), 3 PGC2/EMC2/AN1/VREF-/CN3/RA1 (io), 4 PGD1/EMUD1/AN2/RP0/CN4/RB0 (io), 5 PGC1/EMUC1/AN3/RP1/CN5/RB1 (io), 6 VSS (power), 7 OSCI/CLKI/CN30/RA2 (io), 8 OSCO/CLKO/CN29/RA3 (io), 9 PGD3/EMUD3/SOSCI/RP4/CN1/RB4 (io), 10 PGC3/EMUC3/SOSCO/T1CK/CN0/RA4 (io), 11 INT0/RP7/CN23/RB7 (io), 12 PWM2H1/SCL1/RP8/CN22/RB8 (io), 13 PWM2L1/SDA1/RP9/CN21/RB9 (io), 14 VDDCORE (power), 15 PWM1H2/RP12/CN14/RB12 (io), 16 PWM1L2/RP13/CN13/RB13 (io), 17 PWM1H1/RP14/CN12/RB14 (io), 18 PWM1L1/RP15/CN11/RB15 (io), 19 VSS (power), 20 VDD (power)

## DSPIC33FJ12MC201-I/SS
designator U?
High-Performance 16-bit Digital Signal Controller, 12 KB Flash, 1 KB RAM, 20-Pin SSOP, Industrial Temperature; Published: 29-Jan-2009; DatasheetVersion: revC, Jun-2008; PackageVersion: revAW, Oct-2008; PackageReference: SSOP-SS20; Publisher: Altium Limited; PackageDescription: 20-Lead Plastic Shrink Small Outline (SS) - 5.3mm Body [SSOP]; Code_JEDEC: MO-150; Code_IPC: SOP65P780-20; ComponentLink1Description: Manufacturer Link; ComponentLink1URL: http://www.microchip.com; ComponentLink2Description: Datasheet; ComponentLink2URL: http://ww1.microchip.com/downloads/en/DeviceDoc/70265C.pdf; ComponentLink3Description: Packaging Specification; ComponentLink3URL: http://ww1.microchip.com/downloads/en/PackagingSpec/00049AW.pdf
footprint SSOP-SS20_N (SOP, 20-Leads, Body 7.2x5.2mm, Pitch 0.65mm, IPC Medium Density)
footprint SSOP-SS20_L (SOP, 20-Leads, Body 7.2x5.2mm, Pitch 0.65mm, IPC High Density)
footprint SSOP-SS20_M (SOP, 20-Leads, Body 7.2x5.2mm, Pitch 0.65mm, IPC Low Density)
pins: 1 ~{MCLR} (in), 2 PGD2/EMUD2/AN0/VREF+/CN2/RA0 (io), 3 PGC2/EMC2/AN1/VREF-/CN3/RA1 (io), 4 PGD1/EMUD1/AN2/RP0/CN4/RB0 (io), 5 PGC1/EMUC1/AN3/RP1/CN5/RB1 (io), 6 VSS (power), 7 OSCI/CLKI/CN30/RA2 (io), 8 OSCO/CLKO/CN29/RA3 (io), 9 PGD3/EMUD3/SOSCI/RP4/CN1/RB4 (io), 10 PGC3/EMUC3/SOSCO/T1CK/CN0/RA4 (io), 11 INT0/RP7/CN23/RB7 (io), 12 PWM2H1/SCL1/RP8/CN22/RB8 (io), 13 PWM2L1/SDA1/RP9/CN21/RB9 (io), 14 VDDCORE (power), 15 PWM1H2/RP12/CN14/RB12 (io), 16 PWM1L2/RP13/CN13/RB13 (io), 17 PWM1H1/RP14/CN12/RB14 (io), 18 PWM1L1/RP15/CN11/RB15 (io), 19 VSS (power), 20 VDD (power)

## DSPIC33FJ12MC201T-E/SO
designator U?
High-Performance 16-bit Digital Signal Controller, 12 KB Flash, 1 KB RAM, 20-Pin SOIC, Extended High Temperature, Tape and Reel; Published: 29-Jan-2009; DatasheetVersion: revC, Jun-2008; PackageVersion: revAW, Oct-2008; PackageReference: SOIC-SO20; Publisher: Altium Limited; PackageDescription: 20-Lead Plastic Small Outline (SO) - Wide 7.50mm Body [SOIC]; Code_JEDEC: MS-013-AC; Code_IPC: SOIC127P1030-20; ComponentLink1Description: Manufacturer Link; ComponentLink1URL: http://www.microchip.com; ComponentLink2Description: Datasheet; ComponentLink2URL: http://ww1.microchip.com/downloads/en/DeviceDoc/70265C.pdf; ComponentLink3Description: Packaging Specification; ComponentLink3URL: http://ww1.microchip.com/downloads/en/PackagingSpec/00049AW.pdf
footprint SOIC-SO20_N (SOIC, 20-Leads, Body 12.8x7.5mm, Pitch 1.27mm, IPC Medium Density)
footprint SOIC-SO20_L (SOIC, 20-Leads, Body 12.8x7.5mm, Pitch 1.27mm, IPC High Density)
footprint SOIC-SO20_M (SOIC, 20-Leads, Body 12.8x7.5mm, Pitch 1.27mm, IPC Low Density)
pins: 1 ~{MCLR} (in), 2 PGD2/EMUD2/AN0/VREF+/CN2/RA0 (io), 3 PGC2/EMC2/AN1/VREF-/CN3/RA1 (io), 4 PGD1/EMUD1/AN2/RP0/CN4/RB0 (io), 5 PGC1/EMUC1/AN3/RP1/CN5/RB1 (io), 6 VSS (power), 7 OSCI/CLKI/CN30/RA2 (io), 8 OSCO/CLKO/CN29/RA3 (io), 9 PGD3/EMUD3/SOSCI/RP4/CN1/RB4 (io), 10 PGC3/EMUC3/SOSCO/T1CK/CN0/RA4 (io), 11 INT0/RP7/CN23/RB7 (io), 12 PWM2H1/SCL1/RP8/CN22/RB8 (io), 13 PWM2L1/SDA1/RP9/CN21/RB9 (io), 14 VDDCORE (power), 15 PWM1H2/RP12/CN14/RB12 (io), 16 PWM1L2/RP13/CN13/RB13 (io), 17 PWM1H1/RP14/CN12/RB14 (io), 18 PWM1L1/RP15/CN11/RB15 (io), 19 VSS (power), 20 VDD (power)

## DSPIC33FJ12MC201T-E/SS
designator U?
High-Performance 16-bit Digital Signal Controller, 12 KB Flash, 1 KB RAM, 20-Pin SSOP, Extended High Temperature, Tape and Reel; Published: 29-Jan-2009; DatasheetVersion: revC, Jun-2008; PackageVersion: revAW, Oct-2008; PackageReference: SSOP-SS20; Publisher: Altium Limited; PackageDescription: 20-Lead Plastic Shrink Small Outline (SS) - 5.3mm Body [SSOP]; Code_JEDEC: MO-150; Code_IPC: SOP65P780-20; ComponentLink1Description: Manufacturer Link; ComponentLink1URL: http://www.microchip.com; ComponentLink2Description: Datasheet; ComponentLink2URL: http://ww1.microchip.com/downloads/en/DeviceDoc/70265C.pdf; ComponentLink3Description: Packaging Specification; ComponentLink3URL: http://ww1.microchip.com/downloads/en/PackagingSpec/00049AW.pdf
footprint SSOP-SS20_N (SOP, 20-Leads, Body 7.2x5.2mm, Pitch 0.65mm, IPC Medium Density)
footprint SSOP-SS20_L (SOP, 20-Leads, Body 7.2x5.2mm, Pitch 0.65mm, IPC High Density)
footprint SSOP-SS20_M (SOP, 20-Leads, Body 7.2x5.2mm, Pitch 0.65mm, IPC Low Density)
pins: 1 ~{MCLR} (in), 2 PGD2/EMUD2/AN0/VREF+/CN2/RA0 (io), 3 PGC2/EMC2/AN1/VREF-/CN3/RA1 (io), 4 PGD1/EMUD1/AN2/RP0/CN4/RB0 (io), 5 PGC1/EMUC1/AN3/RP1/CN5/RB1 (io), 6 VSS (power), 7 OSCI/CLKI/CN30/RA2 (io), 8 OSCO/CLKO/CN29/RA3 (io), 9 PGD3/EMUD3/SOSCI/RP4/CN1/RB4 (io), 10 PGC3/EMUC3/SOSCO/T1CK/CN0/RA4 (io), 11 INT0/RP7/CN23/RB7 (io), 12 PWM2H1/SCL1/RP8/CN22/RB8 (io), 13 PWM2L1/SDA1/RP9/CN21/RB9 (io), 14 VDDCORE (power), 15 PWM1H2/RP12/CN14/RB12 (io), 16 PWM1L2/RP13/CN13/RB13 (io), 17 PWM1H1/RP14/CN12/RB14 (io), 18 PWM1L1/RP15/CN11/RB15 (io), 19 VSS (power), 20 VDD (power)

## DSPIC33FJ12MC201T-I/SO
designator U?
High-Performance 16-bit Digital Signal Controller, 12 KB Flash, 1 KB RAM, 20-Pin SOIC, Industrial Temperature, Tape and Reel; Published: 29-Jan-2009; DatasheetVersion: revC, Jun-2008; PackageVersion: revAW, Oct-2008; PackageReference: SOIC-SO20; Publisher: Altium Limited; PackageDescription: 20-Lead Plastic Small Outline (SO) - Wide 7.50mm Body [SOIC]; Code_JEDEC: MS-013-AC; Code_IPC: SOIC127P1030-20; ComponentLink1Description: Manufacturer Link; ComponentLink1URL: http://www.microchip.com; ComponentLink2Description: Datasheet; ComponentLink2URL: http://ww1.microchip.com/downloads/en/DeviceDoc/70265C.pdf; ComponentLink3Description: Packaging Specification; ComponentLink3URL: http://ww1.microchip.com/downloads/en/PackagingSpec/00049AW.pdf
footprint SOIC-SO20_N (SOIC, 20-Leads, Body 12.8x7.5mm, Pitch 1.27mm, IPC Medium Density)
footprint SOIC-SO20_L (SOIC, 20-Leads, Body 12.8x7.5mm, Pitch 1.27mm, IPC High Density)
footprint SOIC-SO20_M (SOIC, 20-Leads, Body 12.8x7.5mm, Pitch 1.27mm, IPC Low Density)
pins: 1 ~{MCLR} (in), 2 PGD2/EMUD2/AN0/VREF+/CN2/RA0 (io), 3 PGC2/EMC2/AN1/VREF-/CN3/RA1 (io), 4 PGD1/EMUD1/AN2/RP0/CN4/RB0 (io), 5 PGC1/EMUC1/AN3/RP1/CN5/RB1 (io), 6 VSS (power), 7 OSCI/CLKI/CN30/RA2 (io), 8 OSCO/CLKO/CN29/RA3 (io), 9 PGD3/EMUD3/SOSCI/RP4/CN1/RB4 (io), 10 PGC3/EMUC3/SOSCO/T1CK/CN0/RA4 (io), 11 INT0/RP7/CN23/RB7 (io), 12 PWM2H1/SCL1/RP8/CN22/RB8 (io), 13 PWM2L1/SDA1/RP9/CN21/RB9 (io), 14 VDDCORE (power), 15 PWM1H2/RP12/CN14/RB12 (io), 16 PWM1L2/RP13/CN13/RB13 (io), 17 PWM1H1/RP14/CN12/RB14 (io), 18 PWM1L1/RP15/CN11/RB15 (io), 19 VSS (power), 20 VDD (power)

## DSPIC33FJ12MC201T-I/SS
designator U?
High-Performance 16-bit Digital Signal Controller, 12 KB Flash, 1 KB RAM, 20-Pin SSOP, Industrial Temperature, Tape and Reel; Published: 29-Jan-2009; DatasheetVersion: revC, Jun-2008; PackageVersion: revAW, Oct-2008; PackageReference: SSOP-SS20; Publisher: Altium Limited; PackageDescription: 20-Lead Plastic Shrink Small Outline (SS) - 5.3mm Body [SSOP]; Code_JEDEC: MO-150; Code_IPC: SOP65P780-20; ComponentLink1Description: Manufacturer Link; ComponentLink1URL: http://www.microchip.com; ComponentLink2Description: Datasheet; ComponentLink2URL: http://ww1.microchip.com/downloads/en/DeviceDoc/70265C.pdf; ComponentLink3Description: Packaging Specification; ComponentLink3URL: http://ww1.microchip.com/downloads/en/PackagingSpec/00049AW.pdf
footprint SSOP-SS20_N (SOP, 20-Leads, Body 7.2x5.2mm, Pitch 0.65mm, IPC Medium Density)
footprint SSOP-SS20_L (SOP, 20-Leads, Body 7.2x5.2mm, Pitch 0.65mm, IPC High Density)
footprint SSOP-SS20_M (SOP, 20-Leads, Body 7.2x5.2mm, Pitch 0.65mm, IPC Low Density)
pins: 1 ~{MCLR} (in), 2 PGD2/EMUD2/AN0/VREF+/CN2/RA0 (io), 3 PGC2/EMC2/AN1/VREF-/CN3/RA1 (io), 4 PGD1/EMUD1/AN2/RP0/CN4/RB0 (io), 5 PGC1/EMUC1/AN3/RP1/CN5/RB1 (io), 6 VSS (power), 7 OSCI/CLKI/CN30/RA2 (io), 8 OSCO/CLKO/CN29/RA3 (io), 9 PGD3/EMUD3/SOSCI/RP4/CN1/RB4 (io), 10 PGC3/EMUC3/SOSCO/T1CK/CN0/RA4 (io), 11 INT0/RP7/CN23/RB7 (io), 12 PWM2H1/SCL1/RP8/CN22/RB8 (io), 13 PWM2L1/SDA1/RP9/CN21/RB9 (io), 14 VDDCORE (power), 15 PWM1H2/RP12/CN14/RB12 (io), 16 PWM1L2/RP13/CN13/RB13 (io), 17 PWM1H1/RP14/CN12/RB14 (io), 18 PWM1L1/RP15/CN11/RB15 (io), 19 VSS (power), 20 VDD (power)